# EAGLE library part ARDUINO-R3ALL (library Arduino-shield-scaffolds)
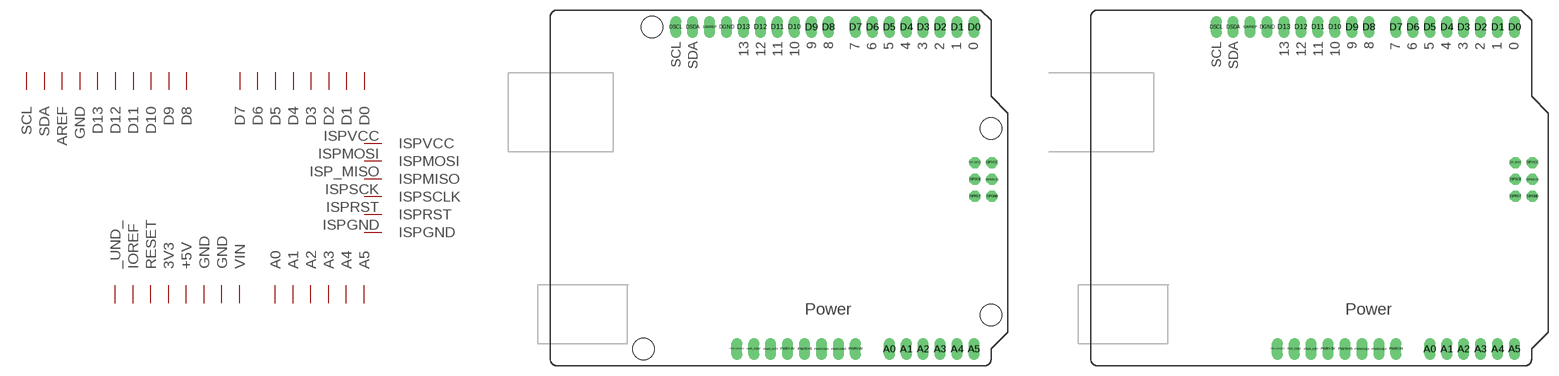
[diagram p0: symbol with the pads of R3+ISP; footprints R3+ISP, R3+ISP-NOHOLES]

Designator prefix -; gates G$1=ARDUINO_PWRBASE G$2=ARDUINO-A0-5 G$3=ARDUINO-AREF G$4=ARDUINO-D8-13 G$5=ARDUINO-DGND G$6=ARDUINO-I2C G$7=ARDUINO-ISP G$8=ARDUINODO-7 G$9=ARDUINO-EXTPWR G$10=ARDUINO-R3PWR

## ARDUINO-R3ALL  [R3+ISP]
A0  G$2:A0
A1  G$2:A1
A2  G$2:A2
A3  G$2:A3
A4  G$2:A4
A5  G$2:A5
D0  G$8:D0
D1  G$8:D1
D2  G$8:D2
D3  G$8:D3
D4  G$8:D4
D5  G$8:D5
D6  G$8:D6
D7  G$8:D7
D8  G$4:D8
D9  G$4:D9
D10  G$4:D10
D11  G$4:D11
D12  G$4:D12
D13  G$4:D13
DAREF  G$3:AREF  pas
DGND  G$5:GND  pwr
DSCL  G$6:SCL
DSDA  G$6:SDA
ISP_MISO  G$7:ISPMISO  in
ISPGND  G$7:ISPGND  pwr
ISPMOSI  G$7:ISPMOSI  out
ISPRST  G$7:ISPRST  in
ISPSCK  G$7:ISPSCLK  out
ISPVCC  G$7:ISPVCC  pwr
PWR+3V  G$9:3V3  pwr
PWR+5  G$1:+5V  pwr
PWR_IOREF  G$10:IOREF  out
PWR_RST  G$9:RESET  in
PWR_UNUSED  G$10:_UND_  pas
PWRGND1  G$1:GND  pwr
PWRGND2  G$1:GND  pwr
PWRVIN  G$1:VIN  pwr

## ARDUINO-R3ALLNOHOLES  [R3+ISP-NOHOLES]
Pads as for R3+ISP

## Footprint R3+ISP (pad centres in mm)
drill 1.1 long: A0 50.8,2.54; A1 53.34,2.54; A2 55.88,2.54; A3 58.42,2.54; A4 60.96,2.54; A5 63.5,2.54; D0 63.5,50.8; D1 60.96,50.8; D2 58.42,50.8; D3 55.88,50.8; D4 53.34,50.8; D5 50.8,50.8; D6 48.26,50.8; D7 45.72,50.8; D8 41.656,50.8; D9 39.116,50.8; D10 36.576,50.8; D11 34.036,50.8; D12 31.496,50.8; D13 28.956,50.8; DAREF 23.876,50.8; DGND 26.416,50.8; DSCL 18.796,50.8; DSDA 21.336,50.8; PWR+3V 35.56,2.54; PWR+5 38.1,2.54; PWR_IOREF 30.48,2.54; PWR_RST 33.02,2.54; PWR_UNUSED 27.94,2.54; PWRGND1 40.64,2.54; PWRGND2 43.18,2.54; PWRVIN 45.72,2.54
drill 1.1 octagon: ISP_MISO 63.627,30.48; ISPGND 66.167,25.4; ISPMOSI 66.167,27.94; ISPRST 63.627,25.4; ISPSCK 63.627,27.94; ISPVCC 66.167,30.48
hole 3.2 at 66.04,35.56
hole 3.2 at 66.04,7.62
hole 3.2 at 15.24,50.8
hole 3.2 at 13.97,2.54

## Footprint R3+ISP-NOHOLES (pad centres in mm)
drill 1.1 long: A0 50.8,2.54; A1 53.34,2.54; A2 55.88,2.54; A3 58.42,2.54; A4 60.96,2.54; A5 63.5,2.54; D0 63.5,50.8; D1 60.96,50.8; D2 58.42,50.8; D3 55.88,50.8; D4 53.34,50.8; D5 50.8,50.8; D6 48.26,50.8; D7 45.72,50.8; D8 41.656,50.8; D9 39.116,50.8; D10 36.576,50.8; D11 34.036,50.8; D12 31.496,50.8; D13 28.956,50.8; DAREF 23.876,50.8; DGND 26.416,50.8; DSCL 18.796,50.8; DSDA 21.336,50.8; PWR+3V 35.56,2.54; PWR+5 38.1,2.54; PWR_IOREF 30.48,2.54; PWR_RST 33.02,2.54; PWR_UNUSED 27.94,2.54; PWRGND1 40.64,2.54; PWRGND2 43.18,2.54; PWRVIN 45.72,2.54
drill 1.1 octagon: ISP_MISO 63.627,30.48; ISPGND 66.167,25.4; ISPMOSI 66.167,27.94; ISPRST 63.627,25.4; ISPSCK 63.627,27.94; ISPVCC 66.167,30.48